# Altium schematic symbol library Connector_Components.SchLib: 19 symbols
Pins are listed as number, name and electrical type; pins without a type are passive.

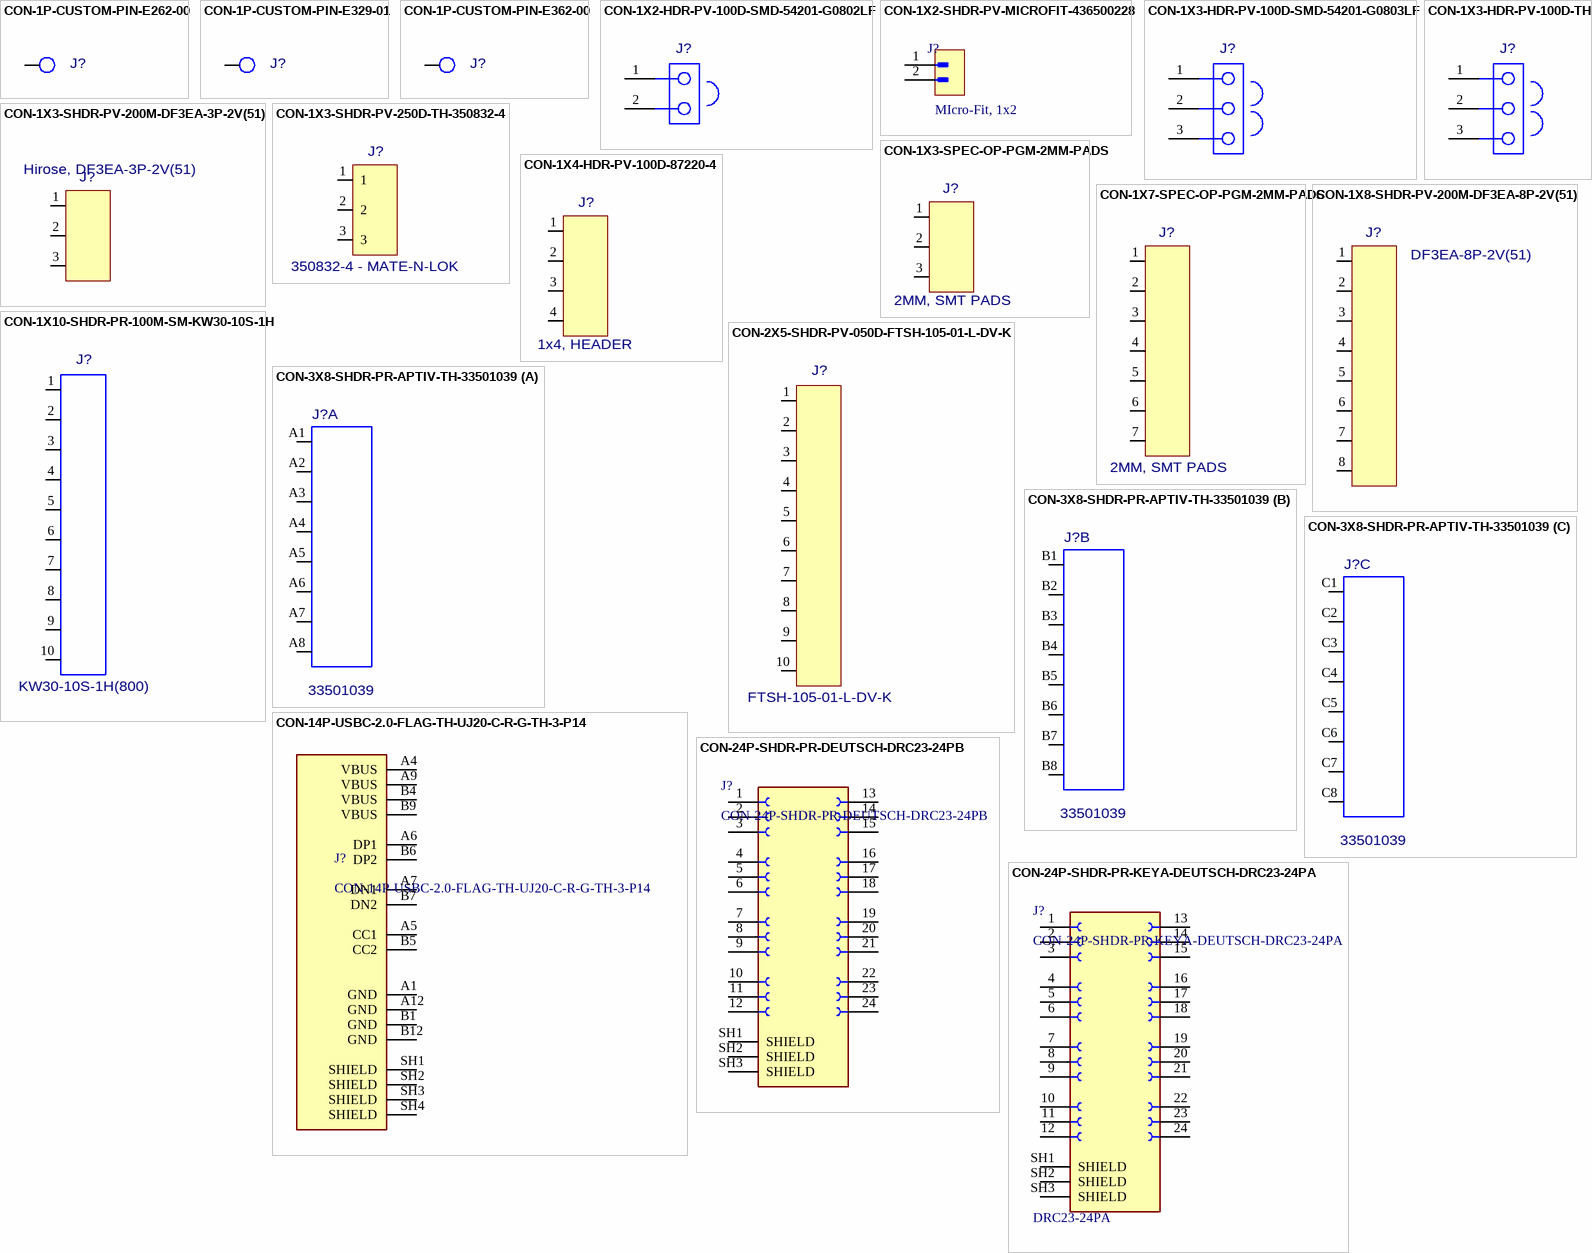
[diagram p0: symbols CON-1P-CUSTOM-PIN-E262-00 to CON-24P-SHDR-PR-KEYA-DEUTSCH-DRC23-24PA]

## CON-1P-CUSTOM-PIN-E262-00
designator J?  (value not drawn)
Terminal Pin; OPN: E362-00
footprint CON-1P-CUSTOM-OP-E362-00-PIN
pins: 1

## CON-1P-CUSTOM-PIN-E329-01
designator J?  (value not drawn)
Terminal Pin; OPN: E329-01
footprint CON-1P-CUSTOM-OP-E329-01-PIN
pins: 1

## CON-1P-CUSTOM-PIN-E362-00
designator J?  (value not drawn)
Terminal Pin; OPN: E362-00
footprint CON-1P-CUSTOM-OP-E329-01-PIN
pins: 1

## CON-1X2-HDR-PV-100D-SMD-54201-G0802LF
designator J?  (value not drawn)
Header, for shunt , 2 pos, 0.1", Gold, TH; MFG: Amphenol; Value: 1X2 HDR; Temp: 105C; MFGPN: 54201-G0802LF
footprint CON-2P-VERT-SMD-54201-G0802LF (Pin Header)
pins: 1, 2

## CON-1X2-SHDR-PV-MICROFIT-436500228
designator J?  value MIcro-Fit, 1x2  (hidden comment: CON-1X2-SHDR-PV-MICROFIT-436500228)
Conn Wire to Board HDR 2 POS 3mm Solder ST Top Entry Thru-Hole Tray; MFG: Molex; MFGPN: 436500228
footprint CON-1X2-MICROFIT-436500228
pins: 1, 2

## CON-1X3-HDR-PV-100D-SMD-54201-G0803LF
designator J?  (value not drawn)
Header, shunt , 3 pos, 0.1", Gold, TH; MFG: Amphenol; Value: 1X3 HDR; Temp: 105C; MFGPN: 54201-G0803LF
footprint CON-3P-VERT-SMD-54201-G0803LF (Pin Header)
pins: 1, 2, 3

## CON-1X3-HDR-PV-100D-TH
designator J?  (value not drawn)
Header, shunt , 3 pos, 0.1", Gold, TH; QPN: 143-010003-1103; MFG: TE Connectivity; MFGPN: 87220-3; Value: 1X3 HDR; Checked: JER 4-9-15; PCB DECAL: CON/3P/STR/100; Temp: 105C
footprint CON-3P-TH-PINHDR-87220-3 (Connector, 1x3, Breakaway Pin Header, TH)
pins: 1, 2, 3

## CON-1X3-SHDR-PV-200M-DF3EA-3P-2V(51)
designator J?  value Hirose, DF3EA-3P-2V(51)  (hidden comment: CON-1X3-SHDR-PV-200M-DF3EA-3P-2V(51))
Connector, 1x3, SHDR, Hirose, Vertical, 2mm, SMT; MFG: Hirose Electric Co Ltd; Temp: 105C; MFGPN: DF3EA-3P-2V(51)
footprint CON-3P-SHDR-PR-200M-DF3EA-3P-2V(51) (Hirose, DF3A Series, 3P)
pins: 1, 2, 3

## CON-1X3-SHDR-PV-250D-TH-350832-4
designator J?  value 350832-4 - MATE-N-LOK  (hidden comment: CON-1X3-SHDR-PV-250D-TH-350832-4)
Connector, 1x3, Socket, SHDR, Vertical, 0.25", TH, Mate N LOK; MFG: TE; QPN: 143-420003-8324; geometry.height: 354.5; MFGPN: 350832-4
footprint CON-3P-TH-MATENLOK-350832-4
pins: 1, 2, 3

## CON-1X3-SPEC-OP-PGM-2MM-PADS
designator J?  value 2MM, SMT PADS  (hidden comment: CON-1X3-SPEC-OP-PGM-2MM-PADS)
Connector, 1x3, Special, OP Programming, 2MM PADs
footprint CON-3P-SMT-2MM-PADS (Connector, 1x3, Special, OP Programming, 2MM PADs)
pins: 1, 2, 3

## CON-1X4-HDR-PV-100D-87220-4
designator J?  value 1x4, HEADER  (hidden comment: CON-1X4-HDR-PV-100D-87220-4)
Connector, 1x4, Breakaway Header,  TE Vertical, Pin, 0.1"; MFG: TE Connectivity; Temp: 105C; MFGPN: 87220-4
footprint CON-4P-TH-PINHDR-87220-4 (Connector, 1x4, Breakaway Pin Header, TH)
pins: 1, 2, 3, 4

## CON-1X7-SPEC-OP-PGM-2MM-PADS
designator J?  value 2MM, SMT PADS  (hidden comment: CON-1X7-SPEC-OP-PGM-2MM-PADS)
Connector, 1x7, Special, OP Programming, 2MM PADs
footprint CON-7P-SMT-2MM-PADS (Connector, 1x37 Special, OP Programming, 2MM PADs)
pins: 1, 2, 3, 4, 5, 6, 7

## CON-1X8-SHDR-PV-200M-DF3EA-8P-2V(51)
designator J?  value DF3EA-8P-2V(51)  (hidden comment: CON-1X8-SHDR-PV-200M-DF3EA-8P-2V(51))
Connector, 1x8, SHDR, Vertical, 2mm, SMT; QPN: 143-011008-8251; MFG: Hirose Electric Co Ltd; Temp: 105C; MFGPN: DF3EA-8P-2V(51)
footprint CON-8P-SHDR-PR-200M-DF3EA-8P-2V(51) (Hirose, DF3A, 8 pin)
pins: 1, 2, 3, 4, 5, 6, 7, 8

## CON-1X10-SHDR-PR-100M-SM-KW30-10S-1H
designator J?  value KW30-10S-1H(800)  (hidden comment: CON-1X10-SHDR-PR-100M-SM-KW30-10S-1H)
Connector, 10 pos., SHDR, Horizontal, 1mm, TH; Geometry.Height: 0.155"; MFG: Hirose; QPN: 143-021010-3010; MFGPN: KW30-10S-1H(800)
footprint CON-10P-KW30-10S-1H
pins: 1, 2, 3, 4, 5, 6, 7, 8, 9, 10

## CON-2X5-SHDR-PV-050D-FTSH-105-01-L-DV-K
designator J?  value FTSH-105-01-L-DV-K  (hidden comment: CON-2X5-SHDR-PV-050D-FTSH-105-01-L-DV-K)
Con, 2X5, SHDR, Keyed, Vert. Pins, 0.050", SMT; QPN: 143-011010-0205; MFG: Samtec; Temp: 125C; MFGPN: FTSH-105-01-L-DV-K
footprint CON-10P-SAMTEC-FTSH-105-01-L-DV-K
pins: 1, 2, 3, 4, 5, 6, 7, 8, 9, 10

## CON-3X8-SHDR-PR-APTIV-TH-33501039
designator J?  value 33501039  (hidden comment: CON-3X8-SHDR-PR-APTIV-TH-33501039)
Connector, 24 pos., SHDR, Right Angle, 1.5 and 2.5 Terminals, TH; MFG: Aptiv; QPN: 143-021024-3350; Notes: Potential Mating Housing: 211PC249S0053; Temp: 125C; MFGPN: 33501039
part A pins: A1, A2, A3, A4, A5, A6, A7, A8
part B pins: B1, B2, B3, B4, B5, B6, B7, B8
part C pins: C1, C2, C3, C4, C5, C6, C7, C8

## CON-14P-USBC-2.0-FLAG-TH-UJ20-C-R-G-TH-3-P14
designator J?
Connector, USB-C, 2.0, Through Hole, Flag,; MFG: Sam Sky; Value: USB-C, RA, FLAG; MFGPN: UJ20-C-R-G-TH-3-P14
footprint CON-USBC-UJ20-C-R-G-TH-3-P14
pins: A1 GND (power), A4 VBUS (power), A5 CC1, A6 DP1, A7 DN1, A9 VBUS (power), A12 GND (power), B1 GND (power), B4 VBUS (power), B5 CC2, B6 DP2, B7 DN2, B9 VBUS (power), B12 GND (power), SH1 SHIELD, SH2 SHIELD, SH3 SHIELD, SH4 SHIELD

## CON-24P-SHDR-PR-DEUTSCH-DRC23-24PB
designator J?
Connector, 24P, Right-angel, Sealed, Size 20 Contacts  7.5A / Pin; DES: Connector, 24P, Shrouded, Sealed, 7.5A, DEUTSCH, DRC23-24PB; MFG: TE; MFGPN: DRC23-24PB; Value: DRC23-24PB
footprint CON-TE-DEUTSCH-DRC23-24PB
pins: 1, 2, 3, 4, 5, 6, 7, 8, 9, 10, 11, 12, 13, 14, 15, 16, 17, 18, 19, 20, 21, 22, 23, 24, SH1 SHIELD, SH2 SHIELD, SH3 SHIELD

## CON-24P-SHDR-PR-KEYA-DEUTSCH-DRC23-24PA
designator J?  value DRC23-24PA
Connector, 24P, Right-angel, Sealed, Size 20 Contacts  7.5A / Pin, A Key; MFGPN: DRC23-24PB; DES: Connector, 24P, Shrouded, Sealed, 7.5A, A-Key, DEUTSCH, DRC23-24PB; MFG: TE
footprint CON-TE-DEUTSCH-DRC23-24PB
pins: 1, 2, 3, 4, 5, 6, 7, 8, 9, 10, 11, 12, 13, 14, 15, 16, 17, 18, 19, 20, 21, 22, 23, 24, SH1 SHIELD, SH2 SHIELD, SH3 SHIELD